# EAGLE library part A3901SEJTR-T (library ZippyComponentLibrary)
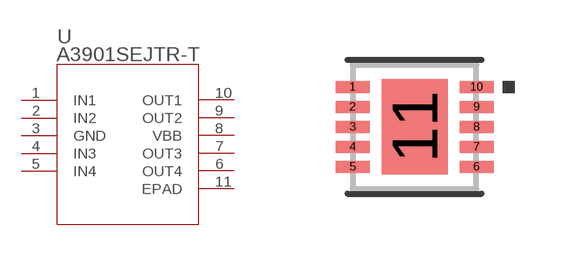
[diagram p4: symbol with the pads of DFN-10_DD; footprint DFN-10_DD]

Designator prefix -

## A3901SEJTR-T  [DFN-10_DD]
1  IN1  pas
2  IN2  pas
3  GND  pwr
4  IN3  pas
5  IN4  pas
6  OUT4  out
7  OUT3  out
8  VBB  pwr
9  OUT2  out
10  OUT1  out
11  EPAD  pas

## Footprint DFN-10_DD (pad centres in mm)
smd 0.85 x 0.3: 1 -1.55,1; 2 -1.55,0.5; 3 -1.55,0; 4 -1.55,-0.5; 5 -1.55,-1; 6 1.55,-1; 7 1.55,-0.5; 8 1.55,0; 9 1.55,0.5; 10 1.55,1
smd 1.65 x 2.38: 11 0,0